# Altium footprint library Altium_Library_Design.PcbLib: 17 footprints (part 1 of 2)
Each footprint in its own frame and in the unit in brackets; x right, y up, seen from the top. Pads: shape width x height; smd on the part's side, far side on the other; paste and mask are expansions set on the pad; w line width, h text height; cw(c..) or ccw(c..) is an arc to the next point about the centre after c.
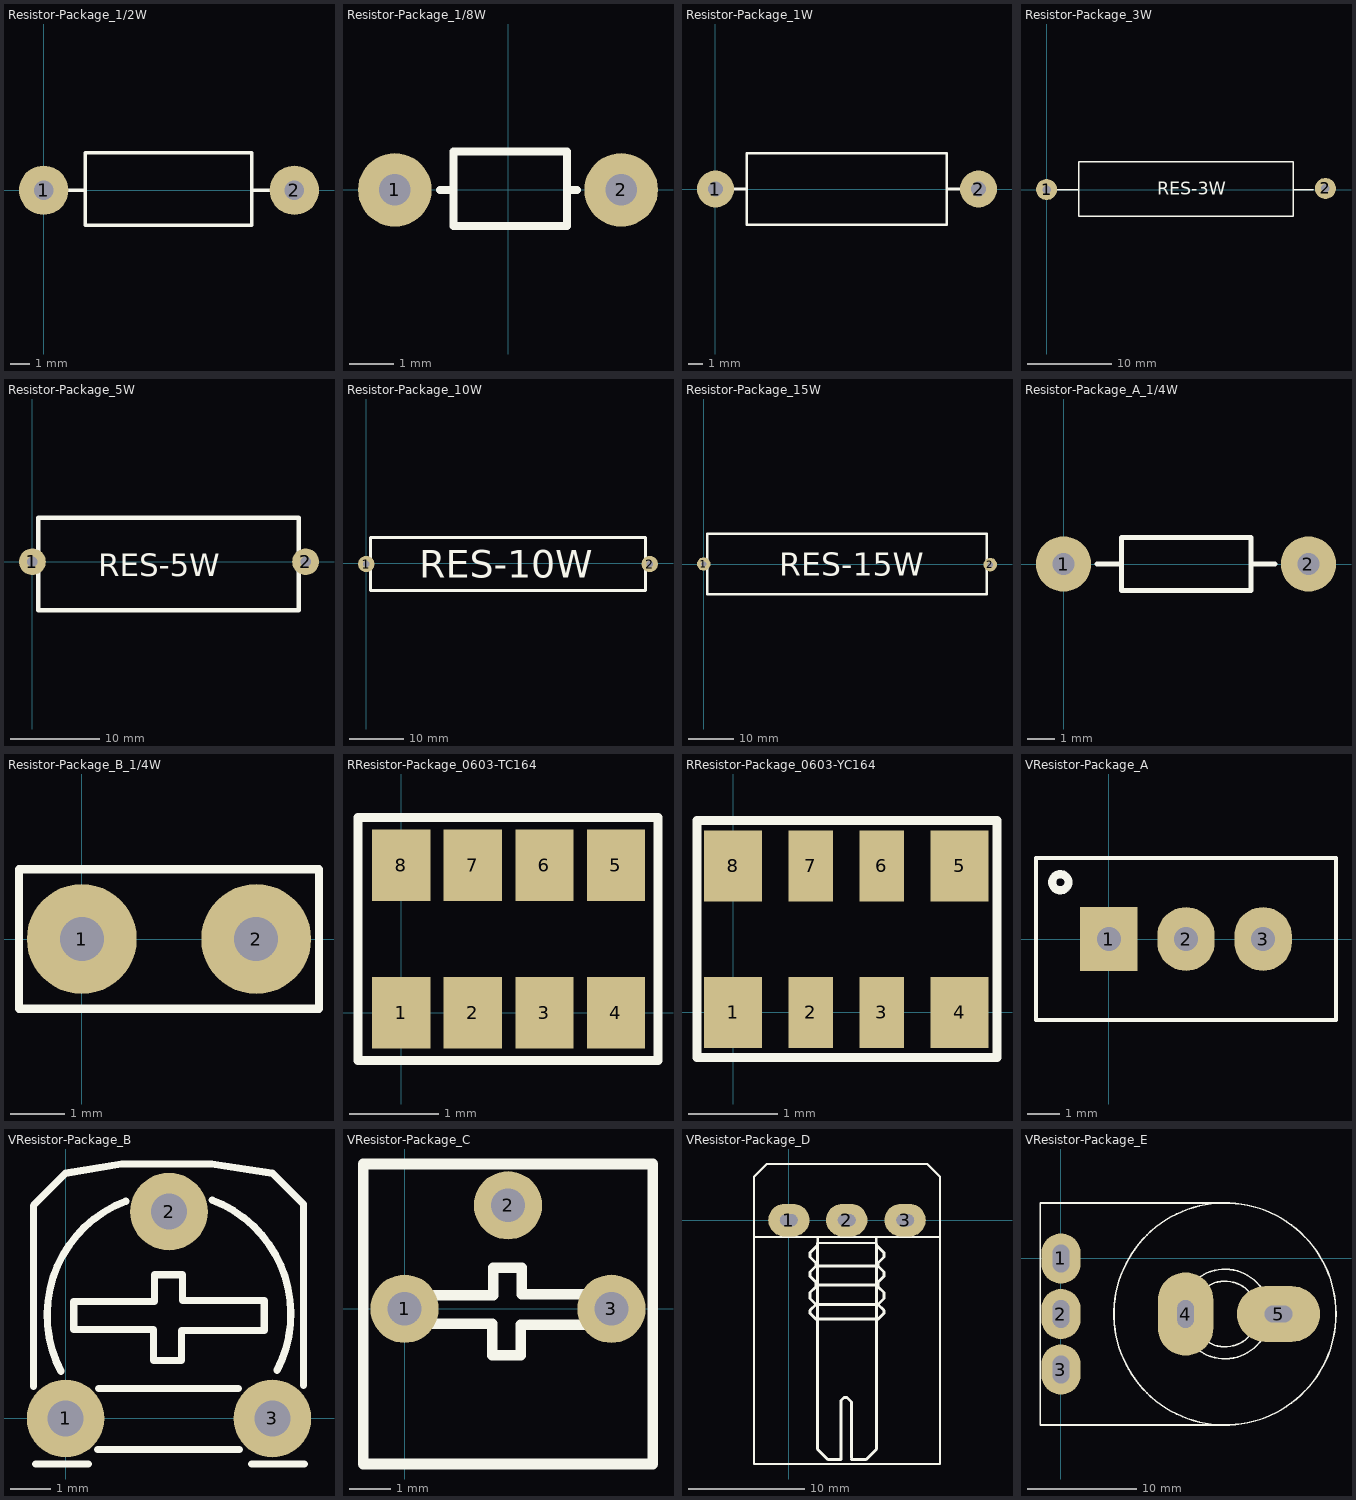
[diagram p0: the footprints below, top view; thin cyan lines are the x and y axes]

## Resistor-Package_1/2W [mm]
pads (2):
  round 2.5 hole 1: 1(0,0) 2(12.7,0)
Top Overlay:
  lines w0.178: 1.219,0 2.108,0 ; 10.617,0 11.481,0 ; 2.108,-1.778 10.541,-1.778 10.541,1.905 2.108,1.905 2.108,-1.778
3D body "User Library-Res50-Axial 0_5W-1K.STEP": height 4.3, standoff -5.08, extent -0.375,-1.875 13.075,1.875

## Resistor-Package_1/8W [mil]
height 100
pads (2):
  round 65 hole 28: 1(-100,0) 2(100,0)
Top Overlay:
  lines w7: -60,0 -48,0 ; 54,0 61,0 ; -48,-32 -48,34 52,34 52,-32 -48,-32
3D body "SW3dPS-Res_Normal (0.25W).STEP": height 86.31, standoff -68.11, extent -135,-35.48 135,37

## Resistor-Package_1W [mm]
pads (2):
  round 2.5 hole 1: 1(0,0) 2(17.78,0)
Top Overlay:
  lines w0.178: 1.219,0 2.108,0 ; 15.697,0 16.561,0 ; 2.108,-2.413 15.621,-2.413 15.621,2.413 2.108,2.413 2.108,-2.413
3D body "User Library-RES1_0L17_5_china.STEP": height 5.76, standoff -1.74, extent -0.21,-2.25 17.99,2.25

## Resistor-Package_3W [mm]
pads (2):
  round 2.5 hole 1: 1(0,0) 2(33.02,0.127)
Top Overlay:
  lines w0.178: 1.219,0 3.81,0 ; 29.21,0 31.547,0 ; 3.81,-3.175 3.81,3.302 29.21,3.302 29.21,-3.175 3.81,-3.175
  text "RES-3W" at 13.081,-0.635 h1.52
3D body "User Library-Res130 3W SilCoat.STEP": height 6.79, standoff -1.24, extent -0.405,-2.972 33.425,3.048

## Resistor-Package_5W [mm]
pads (2):
  round 3 hole 1.2: 1(0,0) 2(30.607,0)
Top Overlay:
  lines w0.508: 0.635,-5.461 0.635,4.953 29.845,4.953 29.845,-5.461 0.635,-5.461
  text "RES-5W" at 7.366,-1.651 h2.54
3D body "User Library-Cement Fixed Resistors 5W PCB Horizontal.STEP": height 9.76, standoff -2.84, extent 0.895,-5.127 29.585,4.873

## Resistor-Package_10W [mm]
pads (2):
  round 3 hole 1.2: 1(0,-0.127) 2(51.816,-0.127)
Top Overlay:
  lines w0.508: 0.762,-4.953 51.054,-4.953 51.054,4.699 0.762,4.699 0.762,-4.953
  text "RES-10W" at 9.652,-2.667 h5.08
3D body "User Library-SQP10AJB-1R5.STEP": height 11.26, standoff -3.28, extent 1.008,-4.627 50.808,4.373

## Resistor-Package_15W [mm]
pads (2):
  round 3 hole 1.2: 1(0,0) 2(63.754,-0.127)
Top Overlay:
  lines w0.508: 0.762,-6.731 0.762,6.731 62.992,6.731 62.992,-6.731 0.762,-6.731
  text "RES-15W" at 16.764,-2.667 h5.08
3D body "User Library-Resistor CR15.STEP": height 13.26, standoff -5.99, extent 1.02,-6.779 62.697,6.731

## Resistor-Package_A_1/4W [mm]
pads (2):
  round 2 hole 0.8: 1(0,0) 2(8.89,0)
Top Overlay:
  lines w0.178: 1.219,0 2.108,0 ; 6.807,0 7.671,0 ; 2.108,-0.965 2.108,0.965 6.807,0.965 6.807,-0.965 2.108,-0.965
3D body "SW3dPS-AXIAL_RESISTOR(0.25W).STEP": height 2.83, standoff -1.27, extent -0.88,-1.2 9.92,1.2

## Resistor-Package_B_1/4W [mm]
pads (2):
  round 2 hole 0.8: 1(0,0) 2(3.175,0)
Top Overlay:
  lines w0.152: -1.143,-1.27 -1.143,1.27 4.318,1.27 4.318,-1.27 -1.143,-1.27
3D body "User Library-Resistor-Up.STEP": height 8.84, standoff -1.65, extent -0.127,-1.168 4.343,1.169

## RResistor-Package_0603-TC164 [mm]
pads (8):
  rect 0.65x0.8 smd: 1(0,0) 2(0.8,0) 3(1.6,0) 4(2.4,0) 5(2.4,1.65) 6(1.6,1.65) 7(0.8,1.65) 8(0,1.65)
Top Overlay:
  lines w0.102: -0.483,-0.533 -0.483,2.184 2.87,2.184 2.87,-0.533 -0.483,-0.533
3D body "68374.stp": height 0.49, standoff -0.01, extent -0.4,0.038 2.8,1.588

## RResistor-Package_0603-YC164 [mm]
pads (8):
  rect 0.65x0.8 smd: 1(0,0) 4(2.55,0) 5(2.55,1.65) 8(0,1.65)
  rect 0.5x0.8 smd: 2(0.875,0) 3(1.675,0) 6(1.675,1.65) 7(0.875,1.65)
Top Overlay:
  lines w0.102: -0.406,-0.508 -0.406,2.159 2.972,2.159 2.972,-0.508 -0.406,-0.508
3D body "User Library-YC164.STEP": height 0.55, standoff 0, extent -0.33,0.038 2.87,1.638

## VResistor-Package_A [mm]
pads (3):
  rect 1.8x2 hole 0.762: 1(0,0)
  oval 1.8x2 hole 0.762: 2(2.413,0) 3(4.826,0)
Top Overlay:
  circle w0.254: c-1.524,1.778 r0.254
  lines w0.127: -0.457,0.635 -0.508,0.686 ; -0.711,0.686 -0.711,0.94 ; -0.711,0.686 -0.711,0.94 ; -0.711,0.686 -0.508,0.889 ; -0.711,0.686 -0.711,0.94 ; -0.711,0.686 -0.508,0.889 ; -0.711,0.686 -0.508,0.686 ; -0.711,0.94 -0.66,0.889 -0.508,0.889 ; -0.508,0.686 -0.508,0.889 ; -2.286,-2.54 7.112,-2.54 7.112,2.54 -2.286,2.54 -2.286,-2.54
3D body "SW3dPS-Potenciometro Vertical.STEP": height 12.81, standoff -4.69, extent -2.251,-2.413 6.949,2.387

## VResistor-Package_B [mil]
pads (3):
  round 75 hole 35 mask+8: 1(0,0) 2(100,200) 3(200,0)
Top Overlay:
  lines w7: -31,31 -31,206 0,237 54,246 141.5,246 200,237 230,207 230,32 ; -29,-44 22,-44 ; -4.35,45.34 cw(c100,100) 58.1,210.1 ; 8,113 8,86 85,86 85,56 112,56 112,85 192,85 192,114 113,114 113,139 86,139 86,113 9,113 ; 31,-30 168,-30 ; 32,29 167,29 ; 141.9,211.1 cw(c100,101) 204.35,46.34 ; 180,-44 231,-44
3D body "User Library-Pot - RES_VAR1.STEP": height 292.74, standoff -136.39, extent -27.95,-50.69 227.95,226.87

## VResistor-Package_C [mil]
pads (3):
  round 65 hole 32: 1(0,0) 2(98.43,98.43) 3(196.85,0)
Top Overlay:
  lines w10: 6.43,13 6.43,-14 83.43,-14 83.43,-44 110.43,-44 110.43,-15 190.43,-15 190.43,14 111.43,14 111.43,39 84.43,39 84.43,13 7.43,13 ; -39.37,-147.64 -39.37,137.8 236.22,137.8 236.22,-147.64 -39.37,-147.64
3D body "User Library-Bourns 3362P.STEP": height 185.04, standoff -215.35, extent -31.49,-147.79 228.35,129.92

## VResistor-Package_D [mil]
pads (3):
  oval 140x110 hole 40 slot 60 at 0 deg: 1(0,0) 2(195.85,0) 3(393.7,0)
Top Overlay:
  lines w7: 96.85,-57 96.85,-77 295.85,-77 295.85,-57 ; 97.85,-77 97.85,-57 ; -118.15,-57 -118.15,-825 511.85,-825 511.85,-57 ; -118.15,-57 511.85,-57 ; -118.15,-57 -118.15,146 -74.15,190 467.85,190 511.85,146 511.85,-57
  lines w10: 91.85,-335 71.85,-315 71.85,-305 91.85,-285 71.85,-265 71.85,-245 91.85,-225 91.85,-210 71.85,-190 71.85,-175 91.85,-155 91.85,-145 71.85,-125 71.85,-110 96.85,-85 ; 91.85,-220 296.85,-220 ; 96.85,-770 96.85,-77 ; 96.85,-760 96.85,-775 131.85,-810 176.85,-810 176.85,-610 186.85,-600 196.85,-600 211.85,-615 211.85,-805 ; 96.85,-335 301.85,-335 321.85,-315 321.85,-305 301.85,-285 ; 96.85,-285 301.85,-285 ; 101.85,-155 296.85,-155 ; 211.85,-810 261.85,-810 296.85,-775 ; 296.85,-770 296.85,-80 ; 296.85,-85 321.85,-110 321.85,-125 301.85,-145 301.85,-155 321.85,-175 321.85,-190 301.85,-210 301.85,-225 321.85,-245 321.85,-265 301.85,-285
3D body "SW3dPS-Pot.STEP": height 840, standoff -130, extent -113.15,-818.11 506.85,188.11

## VResistor-Package_E [mil]
pads (5):
  oval 140x180 hole 100 slot 60 at 0 deg unplated: 1(0,0) 2(0,-200)
  oval 140x180 hole 100 slot 60 at 0 deg: 3(0,-400)
  oval 200x300 hole 100 slot 60 at 0 deg: 4(448.82,-200)
  oval 300x200 hole 100 slot 60 at 90 deg: 5(783.46,-200)
Top Overlay:
  circle w6: c590.55,-200 r161.42
  circle w6: c590.55,-200 r118.11
  circle w6: c590.55,-200 r400
  lines w6: 602,200 -75,200 -75,-600 606,-600